# Altium footprint library PcbLib2.PcbLib: 1 footprints
Each footprint in its own frame and in the unit in brackets; x right, y up, seen from the top. Pads: shape width x height; smd on the part's side, far side on the other; paste and mask are expansions set on the pad; w line width, h text height; cw(c..) or ccw(c..) is an arc to the next point about the centre after c.
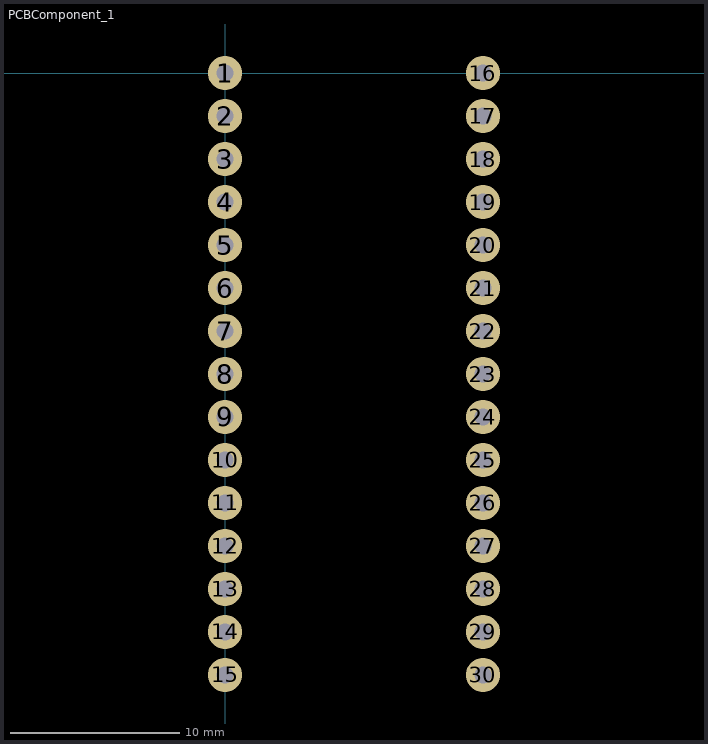
[diagram p0: the footprint, top view; thin cyan lines are the x and y axes]

## PCBComponent_1 [mil]
pads (30):
  round 80 hole 40: 1(0,0) 2(0,-100) 3(0,-200) 4(0,-300) 5(0,-400) 6(0,-500) 7(0,-600) 8(0,-700) 9(0,-800) 10(0,-900) 11(0,-1000) 12(0,-1100) 13(0,-1200) 14(0,-1300) 15(0,-1400) 16(600,0) 17(600,-100) 18(600,-200) 19(600,-300) 20(600,-400) 21(600,-500) 22(600,-600) 23(600,-700) 24(600,-800) 25(600,-900) 26(600,-1000) 27(600,-1100) 28(600,-1200) 29(600,-1300) 30(600,-1400)